# EAGLE library part HDR-1X6-45 (library Mechanical)
100mil 1x6 header at 45 degrees
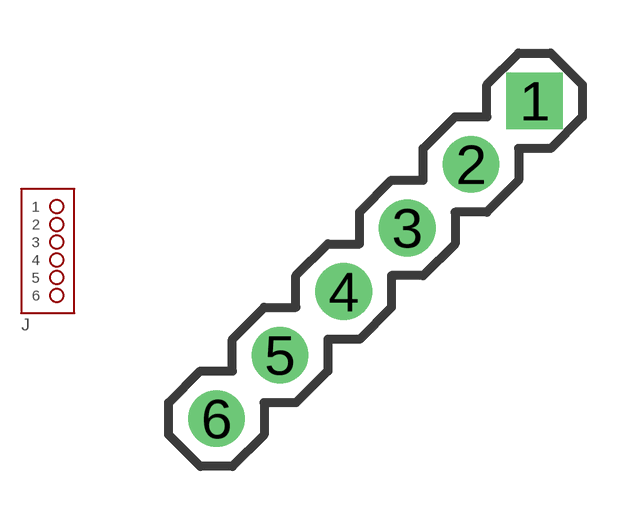
[diagram p65: symbol with the pads of HDR-1X6-45; footprint HDR-1X6-45]

Designator prefix J

## HDR-1X6-45  [HDR-1X6-45]
1  1  pas
2  2  pas
3  3  pas
4  4  pas
5  5  pas
6  6  pas

## Footprint HDR-1X6-45 (pad centres in mm)
100mil spaced 1x6 header at 45 degree angle
drill 1.067 square: 1 4.49,4.49
drill 1.067: 2 2.694,2.694; 3 0.898,0.898; 4 -0.898,-0.898; 5 -2.694,-2.694; 6 -4.49,-4.49